# EAGLE library part WM8804 (library pimoroni-ics)
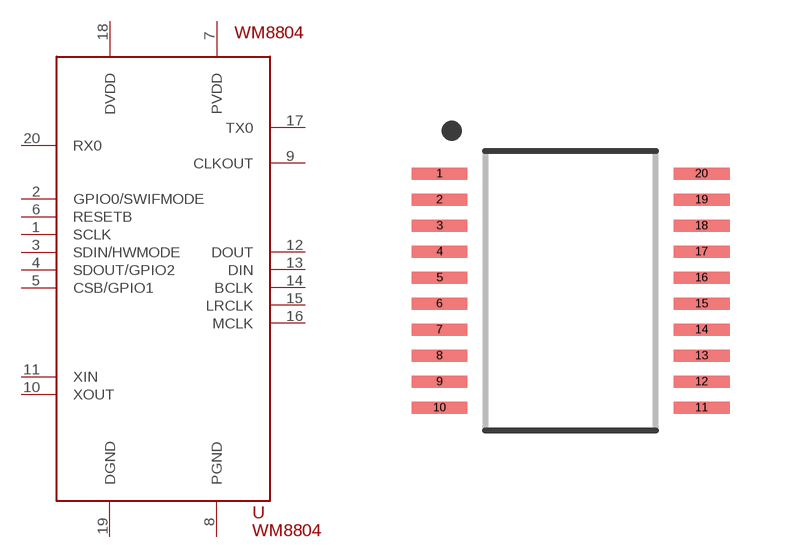
[diagram p122: symbol with the pads of SSOP20; footprint SSOP20]

Designator prefix -

## WM8804  [SSOP20]
1  SCLK
2  GPIO0/SWIFMODE
3  SDIN/HWMODE
4  SDOUT/GPIO2
5  CSB/GPIO1
6  RESETB
7  PVDD
8  PGND
9  CLKOUT
10  XOUT
11  XIN
12  DOUT
13  DIN
14  BCLK
15  LRCLK
16  MCLK
17  TX0
18  DVDD
19  DGND
20  RX0

## Footprint SSOP20 (pad centres in mm)
smd 1.4 x 0.3: 1 -3.275,2.6; 2 -3.275,1.95; 3 -3.275,1.3; 4 -3.275,0.65; 5 -3.275,0; 6 -3.275,-0.65; 7 -3.275,-1.3; 8 -3.275,-1.95; 9 -3.275,-2.6; 10 -3.275,-3.25; 11 3.275,-3.25; 12 3.275,-2.6; 13 3.275,-1.95; 14 3.275,-1.3; 15 3.275,-0.65; 16 3.275,0; 17 3.275,0.65; 18 3.275,1.3; 19 3.275,1.95; 20 3.275,2.6